# EAGLE library part ADAFRUIT_ABSORIENT (library SSI)
Adafruit 9DOF Absolute Orientation Sensor
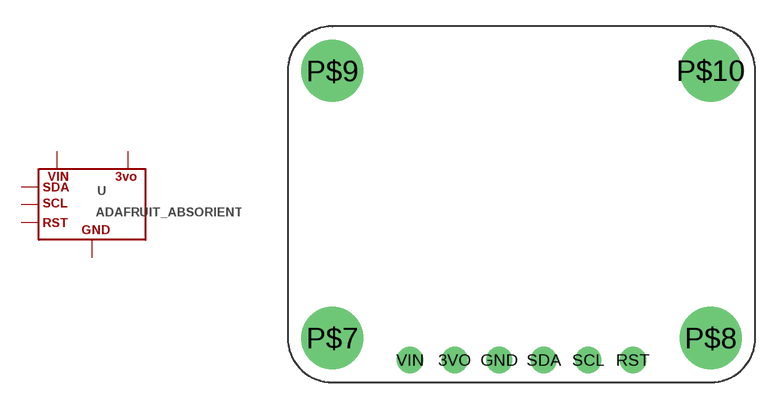
[diagram p35: symbol with the pads of ADAFRUIT_ABSORIENT; footprint ADAFRUIT_ABSORIENT]

Designator prefix -

## ADAFRUIT_ABSORIENT_NO_ADR  [ADAFRUIT_ABSORIENT]
3VO  3VO
GND  GND
RST  RST
SCL  SCL
SDA  SDA
VIN  VIN

## Footprint ADAFRUIT_ABSORIENT (pad centres in mm)
Adafruit 9DOF Absolute Orientation Sensor
drill 1: 3VO 2.54,0; GND 5.08,0; RST 12.7,0; SCL 10.16,0; SDA 7.62,0; VIN 0,0
drill 2.54: P$7 -4.445,1.27; P$8 17.145,1.27; P$9 -4.445,16.51; P$10 17.145,16.51